# Altium integrated library Linear Technology Power Management Battery Management.IntLib: 626 symbols (part 38 of 56)
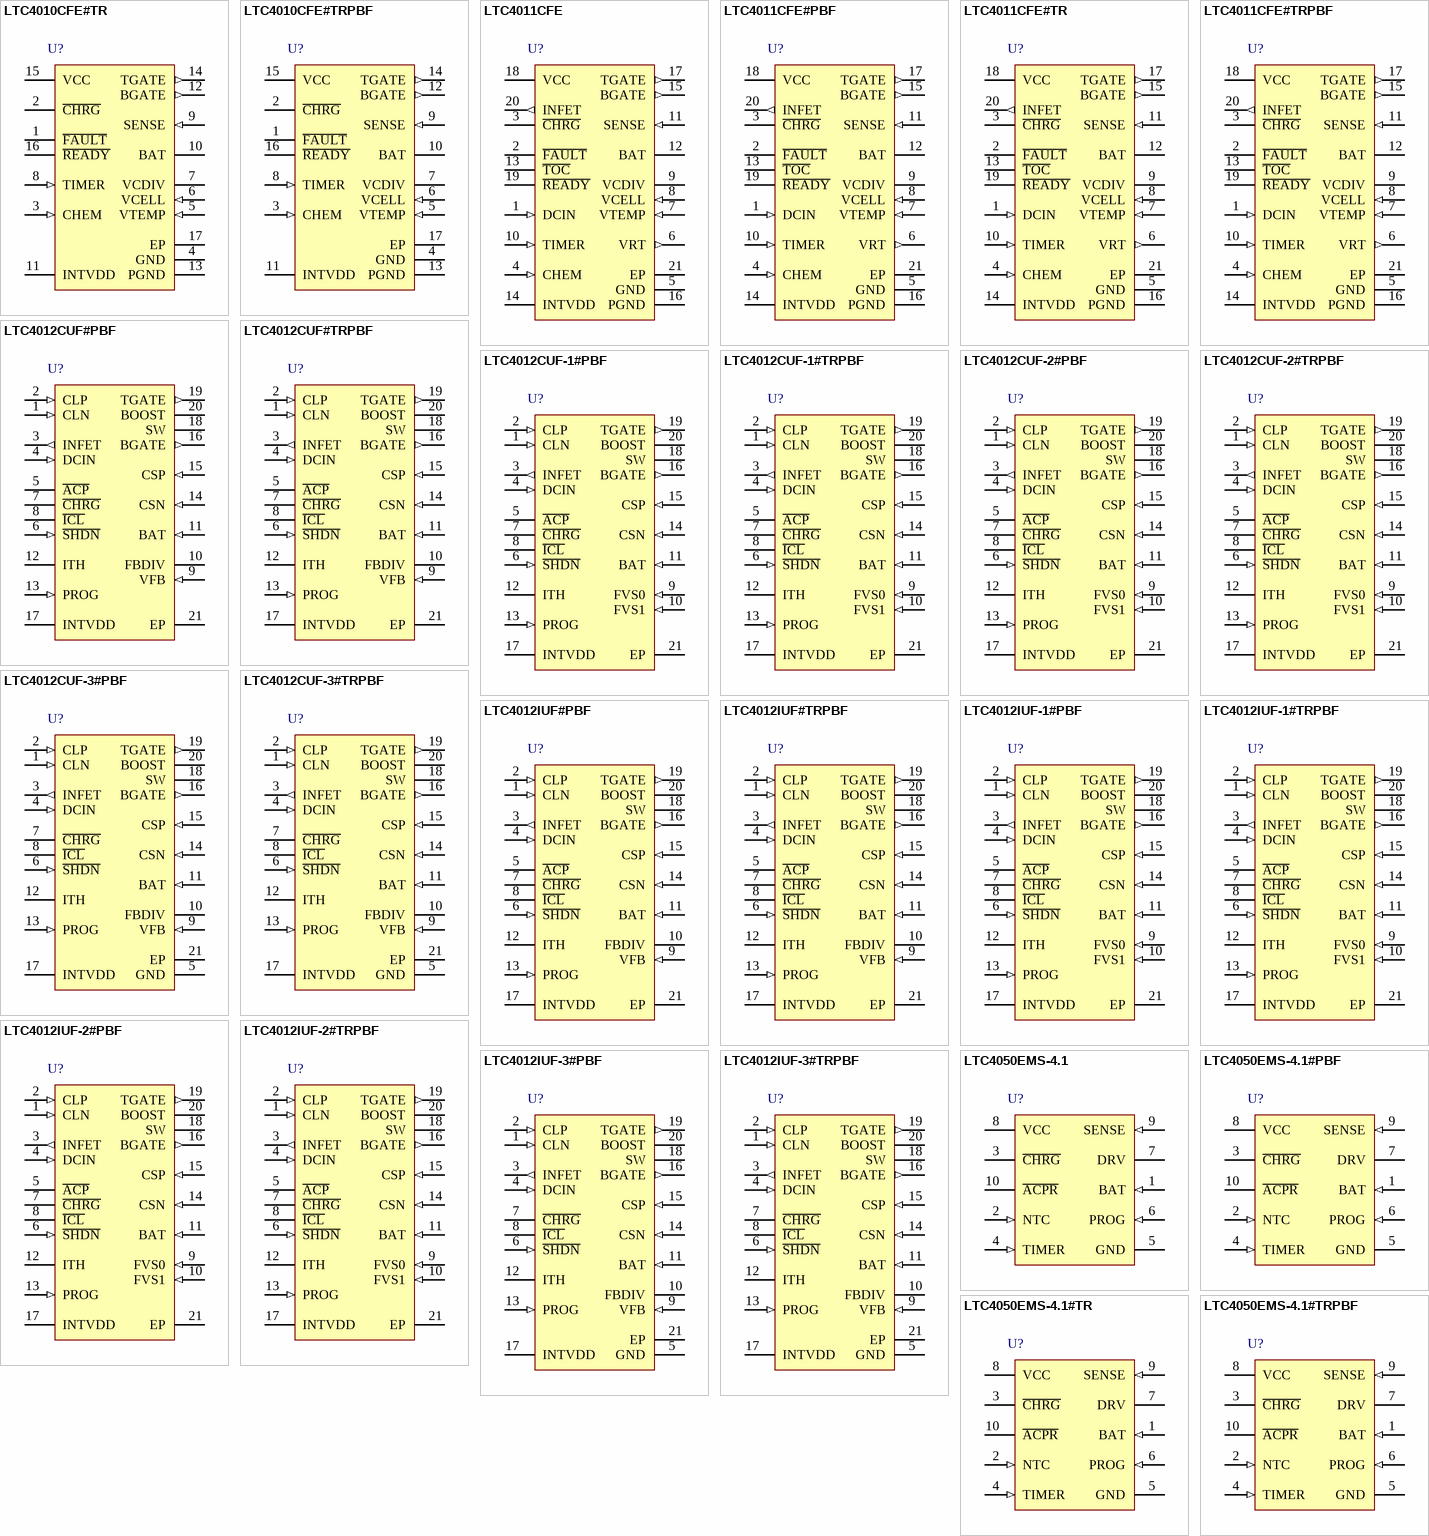
[diagram p59: symbols LTC4010CFE#TR to LTC4050EMS-4.1#TRPBF]

## LTC4050EMS-4.1#PBF
designator U?
Lithium-Ion Linear Battery Charger with Thermistor Interface, 4.5 to 10 V Vin, 10-pin SOP (MS-10), -40 to 85 degC, Pb-Free; Manufacturer: Linear Technology; PartNumber: LTC4050EMS-4.1#PBF; Battery Chemistry: Li-Ion, Li-Polymer; Charge Termination: On-board timer; Float Voltage: 4.1 V; Number of Cells: 1; Vin Max(V): 10; Vin Min(V): 4.5; PackageVersion: Rev. E, 06/2010; PackageReference: MS-10; PackageDescription: 10-Pin Plastic MSOP, Body 3 x 3 mm, Pitch 0.5 mm; Supplier 1: Digi-Key; Supplier Part Number 1: LTC4050EMS-4.1#PBF-ND; Supplier 2: Farnell; Supplier Part Number 2: 1648030; Supplier 3: Newark; Supplier Part Number 3: 58M0834; RoHS: TRUE; Type of Charger: Linear; Mounting Technology: Surface Mount; ComponentLink1Description: Manufacturer URL; ComponentLink1URL: http://www.linear.com/; ComponentLink2Description: Datasheet; ComponentLink2URL: http://cds.linear.com/docs/en/datasheet/4050f.pdf; ComponentLink3Description: Package Specification; ComponentLink3URL: http://cds.linear.com/docs/en/packaging/05081661_F_MS.pdf
footprint LT-MS-10_N (SOP, 10-Leads, Body 3.1x3.1mm, Pitch 0.5mm, IPC Medium Density)
footprint LT-MS-10_L (SOP, 10-Leads, Body 3.1x3.1mm, Pitch 0.5mm, IPC High Density)
footprint LT-MS-10_M (SOP, 10-Leads, Body 3.1x3.1mm, Pitch 0.5mm, IPC Low Density)
pins: 1 BAT (in) "Battery Sense Input. A precision internal resistor divider on this pin sets the final float voltage. The resistor divider is disconnected in sleep mode to reduce the current drain on the battery. A bypass capacitor of 10uF (See Datasheet)", 2 NTC (in) "Thermistor Interface Input. A 10kohm Dale Curve 2 NTC thermistor (or other 10kohm NTC thermistor with a room temperature beta of around 3400) is connected from this pin to ground. The charge cycle will be disabled and the (See Datasheet)", 3 ~{CHRG} (hiz) "Charge Status Open-Drain Output. When the battery is charging, the C\H\R\G\ pin is pulled low by an internal N-channel MOSFET. When the charge current drops to 10% of the full-scale current for more than 15ms, the N-channel (See Datasheet)", 4 TIMER (in) "Timer Capacitor and Constant-Voltage Mode Disable Input Pin. The timer period is set by placing a capacitor, CTIMER, to GND. The timer period is tTIMER = (CTIMER x 3 hours)/(0.1uF). Shorting the TIMER pin to GND will disable (See Datasheet)", 5 GND (power) "Ground.", 6 PROG (in) "Charge Current Program and Shutdown Input Pin. The charge current is programmed by connecting a resistor, RPROG to ground. The charge current is IBAT = (VPROG • 800ohm)/(RPROG • RSENSE). The IC can be forced i(See Datasheet)", 7 DRV (hiz) "Drive Output Pin for the P-Channel MOSFET or PNP Transistor. The impedance is high at this pin, therefore, if a PNP pass transistor is used, it must have high gain.", 8 VCC (power) "Positive Input Supply Voltage. VCC can range from 4.5V to 10V. Bypass this pin with a 1uF capacitor. When VBAT is within 54mV of VCC, the LTC4050 is forced into sleep mode, dropping ICC to 5uA.", 9 SENSE (in) "Current Sense Input. A sense resistor, RSENSE, must be connected from VCC to the SENSE pin. Select a resistor value that will develop approximately 100mV at the programmed full-scale charge current.", 10 ~{ACPR} (hiz) "Wall Adapter Present Output. When the input voltage (wall adaptor) is applied to the LTC4050, this pin is pulled to ground by an internal N-channel MOSFET that is capable of sinking 5mA suitable for driving an external LED."

## LTC4050EMS-4.1#TR
designator U?
Lithium-Ion Linear Battery Charger with Thermistor Interface, 4.5 to 10 V Vin, 10-pin SOP (MS-10), -40 to 85 degC, Tape and Reel; Manufacturer: Linear Technology; PartNumber: LTC4050EMS-4.1#TR; Battery Chemistry: Li-Ion, Li-Polymer; Charge Termination: On-board timer; Float Voltage: 4.1 V; Number of Cells: 1; Vin Max(V): 10; Vin Min(V): 4.5; PackageVersion: Rev. E, 06/2010; PackageReference: MS-10; PackageDescription: 10-Pin Plastic MSOP, Body 3 x 3 mm, Pitch 0.5 mm; Supplier 1: Digi-Key; Supplier Part Number 1: LTC4050EMS-4.1TR-ND; Packing: Tape and Reel; RoHS: FALSE; Type of Charger: Linear; Mounting Technology: Surface Mount; ComponentLink1Description: Manufacturer URL; ComponentLink1URL: http://www.linear.com/; ComponentLink2Description: Datasheet; ComponentLink2URL: http://cds.linear.com/docs/en/datasheet/4050f.pdf; ComponentLink3Description: Package Specification; ComponentLink3URL: http://cds.linear.com/docs/en/packaging/05081661_F_MS.pdf
footprint LT-MS-10_N (SOP, 10-Leads, Body 3.1x3.1mm, Pitch 0.5mm, IPC Medium Density)
footprint LT-MS-10_L (SOP, 10-Leads, Body 3.1x3.1mm, Pitch 0.5mm, IPC High Density)
footprint LT-MS-10_M (SOP, 10-Leads, Body 3.1x3.1mm, Pitch 0.5mm, IPC Low Density)
pins: 1 BAT (in) "Battery Sense Input. A precision internal resistor divider on this pin sets the final float voltage. The resistor divider is disconnected in sleep mode to reduce the current drain on the battery. A bypass capacitor of 10uF (See Datasheet)", 2 NTC (in) "Thermistor Interface Input. A 10kohm Dale Curve 2 NTC thermistor (or other 10kohm NTC thermistor with a room temperature beta of around 3400) is connected from this pin to ground. The charge cycle will be disabled and the (See Datasheet)", 3 ~{CHRG} (hiz) "Charge Status Open-Drain Output. When the battery is charging, the C\H\R\G\ pin is pulled low by an internal N-channel MOSFET. When the charge current drops to 10% of the full-scale current for more than 15ms, the N-channel (See Datasheet)", 4 TIMER (in) "Timer Capacitor and Constant-Voltage Mode Disable Input Pin. The timer period is set by placing a capacitor, CTIMER, to GND. The timer period is tTIMER = (CTIMER x 3 hours)/(0.1uF). Shorting the TIMER pin to GND will disable (See Datasheet)", 5 GND (power) "Ground.", 6 PROG (in) "Charge Current Program and Shutdown Input Pin. The charge current is programmed by connecting a resistor, RPROG to ground. The charge current is IBAT = (VPROG • 800ohm)/(RPROG • RSENSE). The IC can be forced i(See Datasheet)", 7 DRV (hiz) "Drive Output Pin for the P-Channel MOSFET or PNP Transistor. The impedance is high at this pin, therefore, if a PNP pass transistor is used, it must have high gain.", 8 VCC (power) "Positive Input Supply Voltage. VCC can range from 4.5V to 10V. Bypass this pin with a 1uF capacitor. When VBAT is within 54mV of VCC, the LTC4050 is forced into sleep mode, dropping ICC to 5uA.", 9 SENSE (in) "Current Sense Input. A sense resistor, RSENSE, must be connected from VCC to the SENSE pin. Select a resistor value that will develop approximately 100mV at the programmed full-scale charge current.", 10 ~{ACPR} (hiz) "Wall Adapter Present Output. When the input voltage (wall adaptor) is applied to the LTC4050, this pin is pulled to ground by an internal N-channel MOSFET that is capable of sinking 5mA suitable for driving an external LED."

## LTC4050EMS-4.1#TRPBF
designator U?
Lithium-Ion Linear Battery Charger with Thermistor Interface, 4.5 to 10 V Vin, 10-pin SOP (MS-10), -40 to 85 degC, Pb-Free, Tape and Reel; Manufacturer: Linear Technology; PartNumber: LTC4050EMS-4.1#TRPBF; Battery Chemistry: Li-Ion, Li-Polymer; Charge Termination: On-board timer; Float Voltage: 4.1 V; Number of Cells: 1; Vin Max(V): 10; Vin Min(V): 4.5; PackageVersion: Rev. E, 06/2010; PackageReference: MS-10; PackageDescription: 10-Pin Plastic MSOP, Body 3 x 3 mm, Pitch 0.5 mm; Supplier 1: Digi-Key; Supplier Part Number 1: LTC4050EMS-4.1#TRPBF-ND; Packing: Tape and Reel; RoHS: TRUE; Type of Charger: Linear; Mounting Technology: Surface Mount; ComponentLink1Description: Manufacturer URL; ComponentLink1URL: http://www.linear.com/; ComponentLink2Description: Datasheet; ComponentLink2URL: http://cds.linear.com/docs/en/datasheet/4050f.pdf; ComponentLink3Description: Package Specification; ComponentLink3URL: http://cds.linear.com/docs/en/packaging/05081661_F_MS.pdf
footprint LT-MS-10_N (SOP, 10-Leads, Body 3.1x3.1mm, Pitch 0.5mm, IPC Medium Density)
footprint LT-MS-10_L (SOP, 10-Leads, Body 3.1x3.1mm, Pitch 0.5mm, IPC High Density)
footprint LT-MS-10_M (SOP, 10-Leads, Body 3.1x3.1mm, Pitch 0.5mm, IPC Low Density)
pins: 1 BAT (in) "Battery Sense Input. A precision internal resistor divider on this pin sets the final float voltage. The resistor divider is disconnected in sleep mode to reduce the current drain on the battery. A bypass capacitor of 10uF (See Datasheet)", 2 NTC (in) "Thermistor Interface Input. A 10kohm Dale Curve 2 NTC thermistor (or other 10kohm NTC thermistor with a room temperature beta of around 3400) is connected from this pin to ground. The charge cycle will be disabled and the (See Datasheet)", 3 ~{CHRG} (hiz) "Charge Status Open-Drain Output. When the battery is charging, the C\H\R\G\ pin is pulled low by an internal N-channel MOSFET. When the charge current drops to 10% of the full-scale current for more than 15ms, the N-channel (See Datasheet)", 4 TIMER (in) "Timer Capacitor and Constant-Voltage Mode Disable Input Pin. The timer period is set by placing a capacitor, CTIMER, to GND. The timer period is tTIMER = (CTIMER x 3 hours)/(0.1uF). Shorting the TIMER pin to GND will disable (See Datasheet)", 5 GND (power) "Ground.", 6 PROG (in) "Charge Current Program and Shutdown Input Pin. The charge current is programmed by connecting a resistor, RPROG to ground. The charge current is IBAT = (VPROG • 800ohm)/(RPROG • RSENSE). The IC can be forced i(See Datasheet)", 7 DRV (hiz) "Drive Output Pin for the P-Channel MOSFET or PNP Transistor. The impedance is high at this pin, therefore, if a PNP pass transistor is used, it must have high gain.", 8 VCC (power) "Positive Input Supply Voltage. VCC can range from 4.5V to 10V. Bypass this pin with a 1uF capacitor. When VBAT is within 54mV of VCC, the LTC4050 is forced into sleep mode, dropping ICC to 5uA.", 9 SENSE (in) "Current Sense Input. A sense resistor, RSENSE, must be connected from VCC to the SENSE pin. Select a resistor value that will develop approximately 100mV at the programmed full-scale charge current.", 10 ~{ACPR} (hiz) "Wall Adapter Present Output. When the input voltage (wall adaptor) is applied to the LTC4050, this pin is pulled to ground by an internal N-channel MOSFET that is capable of sinking 5mA suitable for driving an external LED."

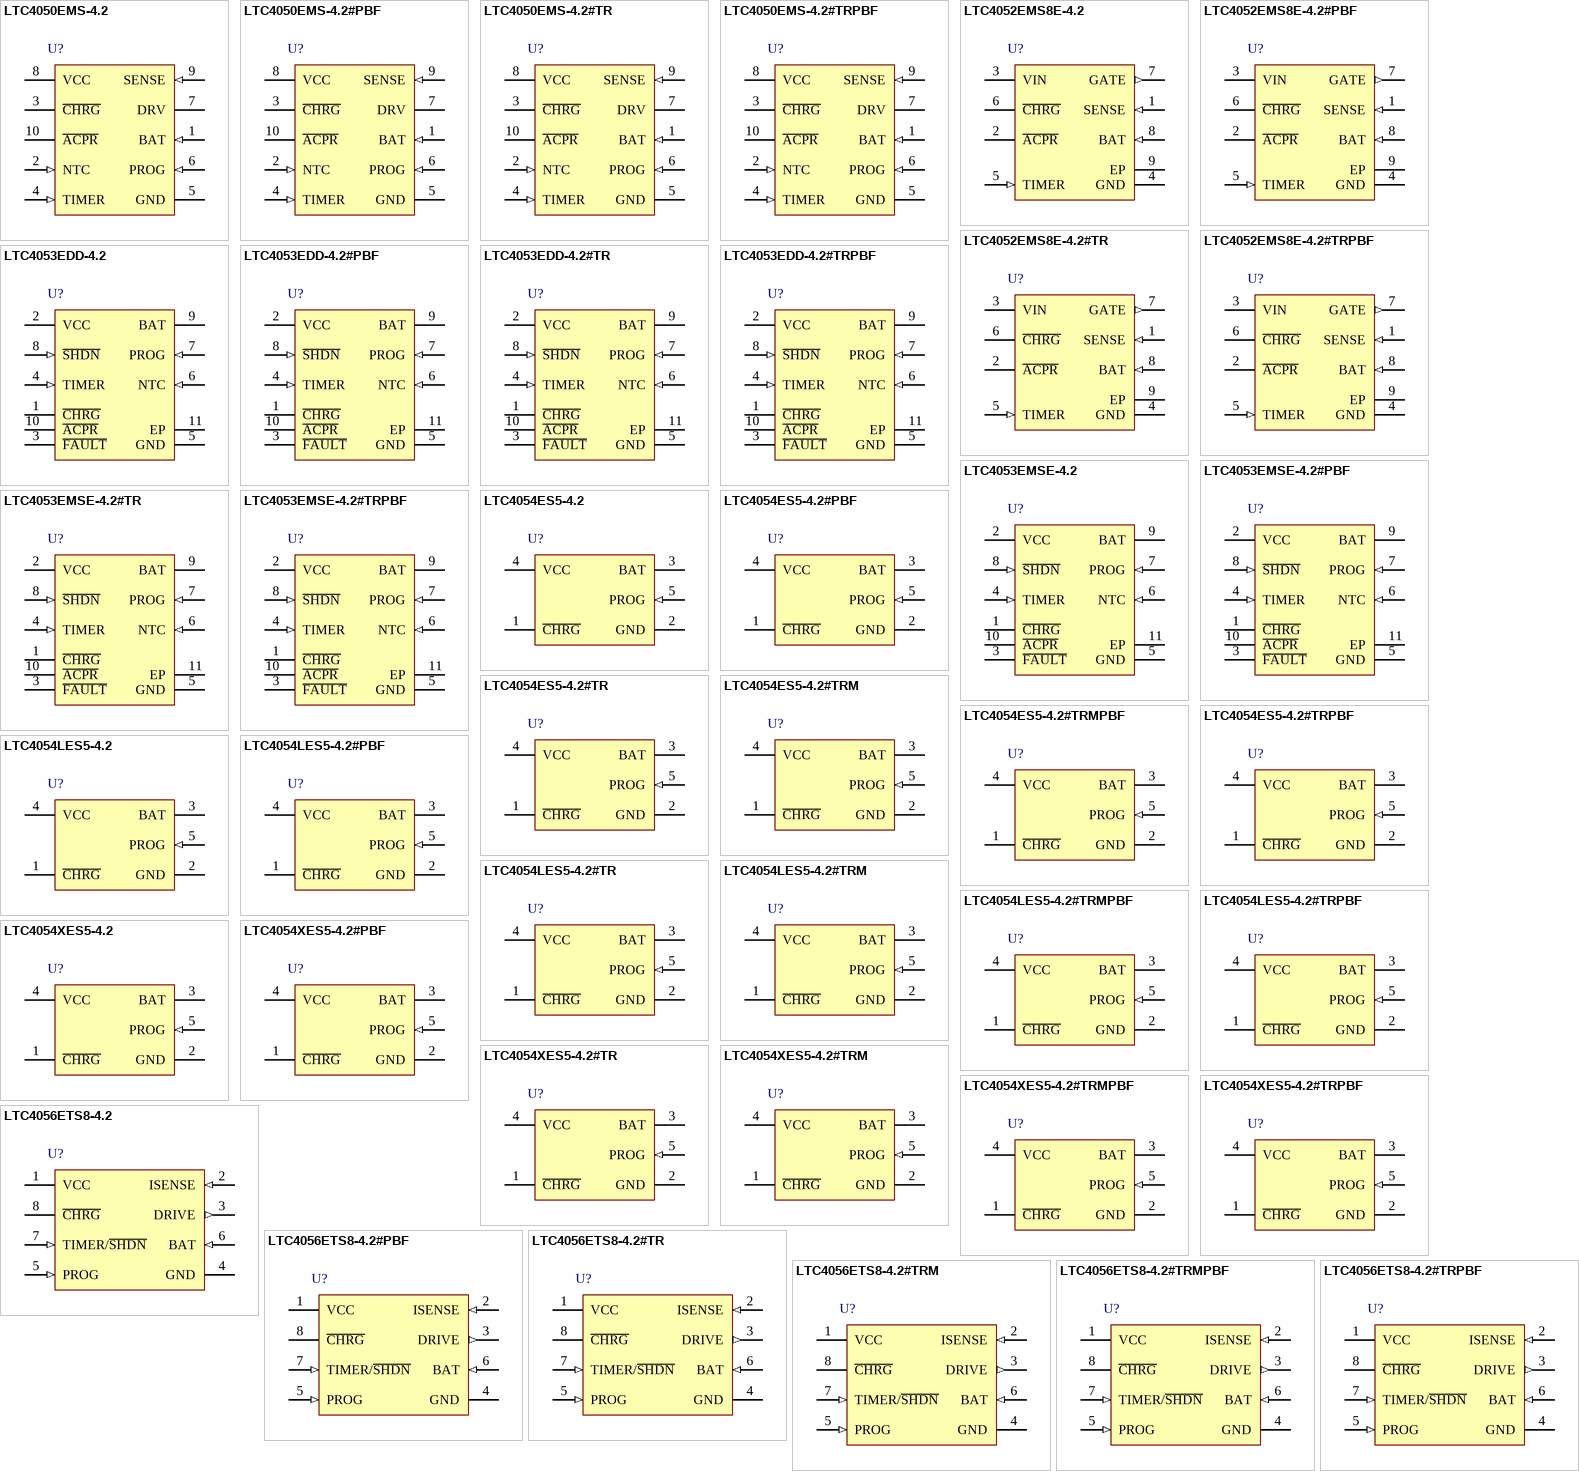
[diagram p15: symbols LTC4050EMS-4.2 to LTC4056ETS8-4.2#TRPBF]

## LTC4050EMS-4.2
designator U?
Lithium-Ion Linear Battery Charger with Thermistor Interface, 4.5 to 10 V Vin, 10-pin SOP (MS-10), -40 to 85 degC; Manufacturer: Linear Technology; PartNumber: LTC4050EMS-4.2; Battery Chemistry: Li-Ion, Li-Polymer; Charge Termination: On-board timer; Float Voltage: 4.2 V; Number of Cells: 1; Vin Max(V): 10; Vin Min(V): 4.5; PackageVersion: Rev. E, 06/2010; PackageReference: MS-10; PackageDescription: 10-Pin Plastic MSOP, Body 3 x 3 mm, Pitch 0.5 mm; Supplier 1: Digi-Key; Supplier Part Number 1: LTC4050EMS-4.2-ND; RoHS: FALSE; Type of Charger: Linear; Mounting Technology: Surface Mount; ComponentLink1Description: Manufacturer URL; ComponentLink1URL: http://www.linear.com/; ComponentLink2Description: Datasheet; ComponentLink2URL: http://cds.linear.com/docs/en/datasheet/4050f.pdf; ComponentLink3Description: Package Specification; ComponentLink3URL: http://cds.linear.com/docs/en/packaging/05081661_F_MS.pdf
footprint LT-MS-10_N (SOP, 10-Leads, Body 3.1x3.1mm, Pitch 0.5mm, IPC Medium Density)
footprint LT-MS-10_L (SOP, 10-Leads, Body 3.1x3.1mm, Pitch 0.5mm, IPC High Density)
footprint LT-MS-10_M (SOP, 10-Leads, Body 3.1x3.1mm, Pitch 0.5mm, IPC Low Density)
pins: 1 BAT (in) "Battery Sense Input. A precision internal resistor divider on this pin sets the final float voltage. The resistor divider is disconnected in sleep mode to reduce the current drain on the battery. A bypass capacitor of 10uF (See Datasheet)", 2 NTC (in) "Thermistor Interface Input. A 10kohm Dale Curve 2 NTC thermistor (or other 10kohm NTC thermistor with a room temperature beta of around 3400) is connected from this pin to ground. The charge cycle will be disabled and the (See Datasheet)", 3 ~{CHRG} (hiz) "Charge Status Open-Drain Output. When the battery is charging, the C\H\R\G\ pin is pulled low by an internal N-channel MOSFET. When the charge current drops to 10% of the full-scale current for more than 15ms, the N-channel (See Datasheet)", 4 TIMER (in) "Timer Capacitor and Constant-Voltage Mode Disable Input Pin. The timer period is set by placing a capacitor, CTIMER, to GND. The timer period is tTIMER = (CTIMER x 3 hours)/(0.1uF). Shorting the TIMER pin to GND will disable (See Datasheet)", 5 GND (power) "Ground.", 6 PROG (in) "Charge Current Program and Shutdown Input Pin. The charge current is programmed by connecting a resistor, RPROG to ground. The charge current is IBAT = (VPROG • 800ohm)/(RPROG • RSENSE). The IC can be forced i(See Datasheet)", 7 DRV (hiz) "Drive Output Pin for the P-Channel MOSFET or PNP Transistor. The impedance is high at this pin, therefore, if a PNP pass transistor is used, it must have high gain.", 8 VCC (power) "Positive Input Supply Voltage. VCC can range from 4.5V to 10V. Bypass this pin with a 1uF capacitor. When VBAT is within 54mV of VCC, the LTC4050 is forced into sleep mode, dropping ICC to 5uA.", 9 SENSE (in) "Current Sense Input. A sense resistor, RSENSE, must be connected from VCC to the SENSE pin. Select a resistor value that will develop approximately 100mV at the programmed full-scale charge current.", 10 ~{ACPR} (hiz) "Wall Adapter Present Output. When the input voltage (wall adaptor) is applied to the LTC4050, this pin is pulled to ground by an internal N-channel MOSFET that is capable of sinking 5mA suitable for driving an external LED."

## LTC4050EMS-4.2#PBF
designator U?
Lithium-Ion Linear Battery Charger with Thermistor Interface, 4.5 to 10 V Vin, 10-pin SOP (MS-10), -40 to 85 degC, Pb-Free; Manufacturer: Linear Technology; PartNumber: LTC4050EMS-4.2#PBF; Battery Chemistry: Li-Ion, Li-Polymer; Charge Termination: On-board timer; Float Voltage: 4.2 V; Number of Cells: 1; Vin Max(V): 10; Vin Min(V): 4.5; PackageVersion: Rev. E, 06/2010; PackageReference: MS-10; PackageDescription: 10-Pin Plastic MSOP, Body 3 x 3 mm, Pitch 0.5 mm; Supplier 1: Digi-Key; Supplier Part Number 1: LTC4050EMS-4.2#PBF-ND; Supplier 2: Newark; Supplier Part Number 2: 58M0838; RoHS: TRUE; Type of Charger: Linear; Mounting Technology: Surface Mount; ComponentLink1Description: Manufacturer URL; ComponentLink1URL: http://www.linear.com/; ComponentLink2Description: Datasheet; ComponentLink2URL: http://cds.linear.com/docs/en/datasheet/4050f.pdf; ComponentLink3Description: Package Specification; ComponentLink3URL: http://cds.linear.com/docs/en/packaging/05081661_F_MS.pdf
footprint LT-MS-10_N (SOP, 10-Leads, Body 3.1x3.1mm, Pitch 0.5mm, IPC Medium Density)
footprint LT-MS-10_L (SOP, 10-Leads, Body 3.1x3.1mm, Pitch 0.5mm, IPC High Density)
footprint LT-MS-10_M (SOP, 10-Leads, Body 3.1x3.1mm, Pitch 0.5mm, IPC Low Density)
pins: 1 BAT (in) "Battery Sense Input. A precision internal resistor divider on this pin sets the final float voltage. The resistor divider is disconnected in sleep mode to reduce the current drain on the battery. A bypass capacitor of 10uF (See Datasheet)", 2 NTC (in) "Thermistor Interface Input. A 10kohm Dale Curve 2 NTC thermistor (or other 10kohm NTC thermistor with a room temperature beta of around 3400) is connected from this pin to ground. The charge cycle will be disabled and the (See Datasheet)", 3 ~{CHRG} (hiz) "Charge Status Open-Drain Output. When the battery is charging, the C\H\R\G\ pin is pulled low by an internal N-channel MOSFET. When the charge current drops to 10% of the full-scale current for more than 15ms, the N-channel (See Datasheet)", 4 TIMER (in) "Timer Capacitor and Constant-Voltage Mode Disable Input Pin. The timer period is set by placing a capacitor, CTIMER, to GND. The timer period is tTIMER = (CTIMER x 3 hours)/(0.1uF). Shorting the TIMER pin to GND will disable (See Datasheet)", 5 GND (power) "Ground.", 6 PROG (in) "Charge Current Program and Shutdown Input Pin. The charge current is programmed by connecting a resistor, RPROG to ground. The charge current is IBAT = (VPROG • 800ohm)/(RPROG • RSENSE). The IC can be forced i(See Datasheet)", 7 DRV (hiz) "Drive Output Pin for the P-Channel MOSFET or PNP Transistor. The impedance is high at this pin, therefore, if a PNP pass transistor is used, it must have high gain.", 8 VCC (power) "Positive Input Supply Voltage. VCC can range from 4.5V to 10V. Bypass this pin with a 1uF capacitor. When VBAT is within 54mV of VCC, the LTC4050 is forced into sleep mode, dropping ICC to 5uA.", 9 SENSE (in) "Current Sense Input. A sense resistor, RSENSE, must be connected from VCC to the SENSE pin. Select a resistor value that will develop approximately 100mV at the programmed full-scale charge current.", 10 ~{ACPR} (hiz) "Wall Adapter Present Output. When the input voltage (wall adaptor) is applied to the LTC4050, this pin is pulled to ground by an internal N-channel MOSFET that is capable of sinking 5mA suitable for driving an external LED."

## LTC4050EMS-4.2#TR
designator U?
Lithium-Ion Linear Battery Charger with Thermistor Interface, 4.5 to 10 V Vin, 10-pin SOP (MS-10), -40 to 85 degC, Tape and Reel; Manufacturer: Linear Technology; PartNumber: LTC4050EMS-4.2#TR; Battery Chemistry: Li-Ion, Li-Polymer; Charge Termination: On-board timer; Float Voltage: 4.2 V; Number of Cells: 1; Vin Max(V): 10; Vin Min(V): 4.5; PackageVersion: Rev. E, 06/2010; PackageReference: MS-10; PackageDescription: 10-Pin Plastic MSOP, Body 3 x 3 mm, Pitch 0.5 mm; Supplier 1: Digi-Key; Supplier Part Number 1: LTC4050EMS-4.2TR-ND; Packing: Tape and Reel; RoHS: FALSE; Type of Charger: Linear; Mounting Technology: Surface Mount; ComponentLink1Description: Manufacturer URL; ComponentLink1URL: http://www.linear.com/; ComponentLink2Description: Datasheet; ComponentLink2URL: http://cds.linear.com/docs/en/datasheet/4050f.pdf; ComponentLink3Description: Package Specification; ComponentLink3URL: http://cds.linear.com/docs/en/packaging/05081661_F_MS.pdf
footprint LT-MS-10_N (SOP, 10-Leads, Body 3.1x3.1mm, Pitch 0.5mm, IPC Medium Density)
footprint LT-MS-10_L (SOP, 10-Leads, Body 3.1x3.1mm, Pitch 0.5mm, IPC High Density)
footprint LT-MS-10_M (SOP, 10-Leads, Body 3.1x3.1mm, Pitch 0.5mm, IPC Low Density)
pins: 1 BAT (in) "Battery Sense Input. A precision internal resistor divider on this pin sets the final float voltage. The resistor divider is disconnected in sleep mode to reduce the current drain on the battery. A bypass capacitor of 10uF (See Datasheet)", 2 NTC (in) "Thermistor Interface Input. A 10kohm Dale Curve 2 NTC thermistor (or other 10kohm NTC thermistor with a room temperature beta of around 3400) is connected from this pin to ground. The charge cycle will be disabled and the (See Datasheet)", 3 ~{CHRG} (hiz) "Charge Status Open-Drain Output. When the battery is charging, the C\H\R\G\ pin is pulled low by an internal N-channel MOSFET. When the charge current drops to 10% of the full-scale current for more than 15ms, the N-channel (See Datasheet)", 4 TIMER (in) "Timer Capacitor and Constant-Voltage Mode Disable Input Pin. The timer period is set by placing a capacitor, CTIMER, to GND. The timer period is tTIMER = (CTIMER x 3 hours)/(0.1uF). Shorting the TIMER pin to GND will disable (See Datasheet)", 5 GND (power) "Ground.", 6 PROG (in) "Charge Current Program and Shutdown Input Pin. The charge current is programmed by connecting a resistor, RPROG to ground. The charge current is IBAT = (VPROG • 800ohm)/(RPROG • RSENSE). The IC can be forced i(See Datasheet)", 7 DRV (hiz) "Drive Output Pin for the P-Channel MOSFET or PNP Transistor. The impedance is high at this pin, therefore, if a PNP pass transistor is used, it must have high gain.", 8 VCC (power) "Positive Input Supply Voltage. VCC can range from 4.5V to 10V. Bypass this pin with a 1uF capacitor. When VBAT is within 54mV of VCC, the LTC4050 is forced into sleep mode, dropping ICC to 5uA.", 9 SENSE (in) "Current Sense Input. A sense resistor, RSENSE, must be connected from VCC to the SENSE pin. Select a resistor value that will develop approximately 100mV at the programmed full-scale charge current.", 10 ~{ACPR} (hiz) "Wall Adapter Present Output. When the input voltage (wall adaptor) is applied to the LTC4050, this pin is pulled to ground by an internal N-channel MOSFET that is capable of sinking 5mA suitable for driving an external LED."

## LTC4050EMS-4.2#TRPBF
designator U?
Lithium-Ion Linear Battery Charger with Thermistor Interface, 4.5 to 10 V Vin, 10-pin SOP (MS-10), -40 to 85 degC, Pb-Free, Tape and Reel; Manufacturer: Linear Technology; PartNumber: LTC4050EMS-4.2#TRPBF; Battery Chemistry: Li-Ion, Li-Polymer; Charge Termination: On-board timer; Float Voltage: 4.2 V; Number of Cells: 1; Vin Max(V): 10; Vin Min(V): 4.5; PackageVersion: Rev. E, 06/2010; PackageReference: MS-10; PackageDescription: 10-Pin Plastic MSOP, Body 3 x 3 mm, Pitch 0.5 mm; Supplier 1: Digi-Key; Supplier Part Number 1: LTC4050EMS-4.2#TRPBF-ND; Packing: Tape and Reel; RoHS: TRUE; Type of Charger: Linear; Mounting Technology: Surface Mount; ComponentLink1Description: Manufacturer URL; ComponentLink1URL: http://www.linear.com/; ComponentLink2Description: Datasheet; ComponentLink2URL: http://cds.linear.com/docs/en/datasheet/4050f.pdf; ComponentLink3Description: Package Specification; ComponentLink3URL: http://cds.linear.com/docs/en/packaging/05081661_F_MS.pdf
footprint LT-MS-10_N (SOP, 10-Leads, Body 3.1x3.1mm, Pitch 0.5mm, IPC Medium Density)
footprint LT-MS-10_L (SOP, 10-Leads, Body 3.1x3.1mm, Pitch 0.5mm, IPC High Density)
footprint LT-MS-10_M (SOP, 10-Leads, Body 3.1x3.1mm, Pitch 0.5mm, IPC Low Density)
pins: 1 BAT (in) "Battery Sense Input. A precision internal resistor divider on this pin sets the final float voltage. The resistor divider is disconnected in sleep mode to reduce the current drain on the battery. A bypass capacitor of 10uF (See Datasheet)", 2 NTC (in) "Thermistor Interface Input. A 10kohm Dale Curve 2 NTC thermistor (or other 10kohm NTC thermistor with a room temperature beta of around 3400) is connected from this pin to ground. The charge cycle will be disabled and the (See Datasheet)", 3 ~{CHRG} (hiz) "Charge Status Open-Drain Output. When the battery is charging, the C\H\R\G\ pin is pulled low by an internal N-channel MOSFET. When the charge current drops to 10% of the full-scale current for more than 15ms, the N-channel (See Datasheet)", 4 TIMER (in) "Timer Capacitor and Constant-Voltage Mode Disable Input Pin. The timer period is set by placing a capacitor, CTIMER, to GND. The timer period is tTIMER = (CTIMER x 3 hours)/(0.1uF). Shorting the TIMER pin to GND will disable (See Datasheet)", 5 GND (power) "Ground.", 6 PROG (in) "Charge Current Program and Shutdown Input Pin. The charge current is programmed by connecting a resistor, RPROG to ground. The charge current is IBAT = (VPROG • 800ohm)/(RPROG • RSENSE). The IC can be forced i(See Datasheet)", 7 DRV (hiz) "Drive Output Pin for the P-Channel MOSFET or PNP Transistor. The impedance is high at this pin, therefore, if a PNP pass transistor is used, it must have high gain.", 8 VCC (power) "Positive Input Supply Voltage. VCC can range from 4.5V to 10V. Bypass this pin with a 1uF capacitor. When VBAT is within 54mV of VCC, the LTC4050 is forced into sleep mode, dropping ICC to 5uA.", 9 SENSE (in) "Current Sense Input. A sense resistor, RSENSE, must be connected from VCC to the SENSE pin. Select a resistor value that will develop approximately 100mV at the programmed full-scale charge current.", 10 ~{ACPR} (hiz) "Wall Adapter Present Output. When the input voltage (wall adaptor) is applied to the LTC4050, this pin is pulled to ground by an internal N-channel MOSFET that is capable of sinking 5mA suitable for driving an external LED."

## LTC4052EMS8E-4.2
designator U?
Lithium-Ion Battery Pulse Charger with Overcurrent Protection, 4.5 to 10 V Vin, 8-pin SOP (MS8E-8), -40 to 85 degC; Manufacturer: Linear Technology; PartNumber: LTC4052EMS8E-4.2; Battery Chemistry: Li-Ion, Li-Polymer; Charge Termination: On-board timer; Float Voltage: 4.2 V; Number of Cells: 1; Vin Max(V): 10; Vin Min(V): 4.5; PackageVersion: Rev. E; PackageReference: MS8E-8; PackageDescription: 8-Pin Plastic MSOP, Exposed Die Pad, Body 3 x 3 mm, Pitch 0.65 mm; Supplier 1: Digi-Key; Supplier Part Number 1: LTC4052EMS8E-4.2-ND; RoHS: FALSE; Type of Charger: Pulse; Mounting Technology: Surface Mount; ComponentLink1Description: Manufacturer URL; ComponentLink1URL: http://www.linear.com/; ComponentLink2Description: Datasheet; ComponentLink2URL: http://cds.linear.com/docs/en/datasheet/405242f.pdf; ComponentLink3Description: Package Specification; ComponentLink3URL: http://cds.linear.com/docs/en/datasheet/4070fc.pdf
footprint LT-MS8E-8-2060X1830TP_N (SOP, 8-Leads, Body 3.1x3.1mm, Pitch 0.65mm, Thermal Pad 2.162x1.932mm, IPC Medium Density)
footprint LT-MS8E-8-2060X1830TP_L (SOP, 8-Leads, Body 3.1x3.1mm, Pitch 0.65mm, Thermal Pad 2.162x1.932mm, IPC High Density)
footprint LT-MS8E-8-2060X1830TP_M (SOP, 8-Leads, Body 3.1x3.1mm, Pitch 0.65mm, Thermal Pad 2.162x1.932mm, IPC Low Density)
pins: 1 SENSE (in) "Overcurrent Sense Input. A sense resistor (RSENSE) should be connected from VIN to the SENSE pin to program the current limit level. When overcurrent limit is tripped, the pass transistor immediately turns off and turns back (See Datasheet)", 2 ~{ACPR} (hiz) "AC Wall Adapter Present Open-Drain Output. When the input voltage (wall adapter) is applied to the LTC4052, this pin is pulled to ground by an internal N-channel MOSFET capable of driving an LED.", 3 VIN (power) "Positive Input Supply Voltage (4.5V <= VIN <= 10V). Bypass this pin with a 1uF capacitor in series with a 4.7ohm resistor.", 4 GND (power) "Electrical Ground Connection and provides a thermal path from the IC to the PC board copper. The exposed backside of the package is also ground and must be soldered to the PC board for maximum power dissipation.", 5 TIMER (in) "Timer Set Pin. The timer period is programmed by a capacitor (CTIMER) to ground. The timer period is: tTIMER = (CTIMER x 3Hr)/(0.1uF). The minimum ON time, minimum OFF time and the overcurrent time-out period all scale with (See Datasheet)", 6 ~{CHRG} (hiz) "Charge Status Open-Drain Output. When a depleted battery is being charged, the C\H\R\G\ pin is pulled to ground by an internal N-channel MOSFET capable of driving an LED. Once the duty cycle at the GATE pin drops below 10%, (See Datasheet)", 7 GATE (out) "Gate Drive Output Pin for Internal and External Pass Transistors. An external N-MOSFET transistor can be connected in parallel with the internal transistor to reduce the on-resistance for higher charge current. In this case, (See Datasheet)", 8 BAT (in) "Battery Sense Input Pin. An internal resistor divider presets the final float voltage to 4.2V. If the BAT pin drops below 4.05V after the charge cycle has ended, the timer resets and a new charge cycle begins. This pin is (See Datasheet)", 9 EP (power) "EXPOSED PAD IS GROUND. (MUST BE SOLDERED TO PCB)."

## LTC4052EMS8E-4.2#PBF
designator U?
Lithium-Ion Battery Pulse Charger with Overcurrent Protection, 4.5 to 10 V Vin, 8-pin SOP (MS8E-8), -40 to 85 degC, Pb-Free; Manufacturer: Linear Technology; PartNumber: LTC4052EMS8E-4.2#PBF; Battery Chemistry: Li-Ion, Li-Polymer; Charge Termination: On-board timer; Float Voltage: 4.2 V; Number of Cells: 1; Vin Max(V): 10; Vin Min(V): 4.5; PackageVersion: Rev. E; PackageReference: MS8E-8; PackageDescription: 8-Pin Plastic MSOP, Exposed Die Pad, Body 3 x 3 mm, Pitch 0.65 mm; Supplier 1: Digi-Key; Supplier Part Number 1: LTC4052EMS8E-4.2#PBF-ND; Supplier 2: Farnell; Supplier Part Number 2: 1273985; Supplier 3: Newark; Supplier Part Number 3: 58M0842; RoHS: TRUE; Type of Charger: Pulse; Mounting Technology: Surface Mount; ComponentLink1Description: Manufacturer URL; ComponentLink1URL: http://www.linear.com/; ComponentLink2Description: Datasheet; ComponentLink2URL: http://cds.linear.com/docs/en/datasheet/405242f.pdf; ComponentLink3Description: Package Specification; ComponentLink3URL: http://cds.linear.com/docs/en/datasheet/4070fc.pdf
footprint LT-MS8E-8-2060X1830TP_N (SOP, 8-Leads, Body 3.1x3.1mm, Pitch 0.65mm, Thermal Pad 2.162x1.932mm, IPC Medium Density)
footprint LT-MS8E-8-2060X1830TP_L (SOP, 8-Leads, Body 3.1x3.1mm, Pitch 0.65mm, Thermal Pad 2.162x1.932mm, IPC High Density)
footprint LT-MS8E-8-2060X1830TP_M (SOP, 8-Leads, Body 3.1x3.1mm, Pitch 0.65mm, Thermal Pad 2.162x1.932mm, IPC Low Density)
pins: 1 SENSE (in) "Overcurrent Sense Input. A sense resistor (RSENSE) should be connected from VIN to the SENSE pin to program the current limit level. When overcurrent limit is tripped, the pass transistor immediately turns off and turns back (See Datasheet)", 2 ~{ACPR} (hiz) "AC Wall Adapter Present Open-Drain Output. When the input voltage (wall adapter) is applied to the LTC4052, this pin is pulled to ground by an internal N-channel MOSFET capable of driving an LED.", 3 VIN (power) "Positive Input Supply Voltage (4.5V <= VIN <= 10V). Bypass this pin with a 1uF capacitor in series with a 4.7ohm resistor.", 4 GND (power) "Electrical Ground Connection and provides a thermal path from the IC to the PC board copper. The exposed backside of the package is also ground and must be soldered to the PC board for maximum power dissipation.", 5 TIMER (in) "Timer Set Pin. The timer period is programmed by a capacitor (CTIMER) to ground. The timer period is: tTIMER = (CTIMER x 3Hr)/(0.1uF). The minimum ON time, minimum OFF time and the overcurrent time-out period all scale with (See Datasheet)", 6 ~{CHRG} (hiz) "Charge Status Open-Drain Output. When a depleted battery is being charged, the C\H\R\G\ pin is pulled to ground by an internal N-channel MOSFET capable of driving an LED. Once the duty cycle at the GATE pin drops below 10%, (See Datasheet)", 7 GATE (out) "Gate Drive Output Pin for Internal and External Pass Transistors. An external N-MOSFET transistor can be connected in parallel with the internal transistor to reduce the on-resistance for higher charge current. In this case, (See Datasheet)", 8 BAT (in) "Battery Sense Input Pin. An internal resistor divider presets the final float voltage to 4.2V. If the BAT pin drops below 4.05V after the charge cycle has ended, the timer resets and a new charge cycle begins. This pin is (See Datasheet)", 9 EP (power) "EXPOSED PAD IS GROUND. (MUST BE SOLDERED TO PCB)."

## LTC4052EMS8E-4.2#TR
designator U?
Lithium-Ion Battery Pulse Charger with Overcurrent Protection, 4.5 to 10 V Vin, 8-pin SOP (MS8E-8), -40 to 85 degC, Tape and Reel; Manufacturer: Linear Technology; PartNumber: LTC4052EMS8E-4.2#TR; Battery Chemistry: Li-Ion, Li-Polymer; Charge Termination: On-board timer; Float Voltage: 4.2 V; Number of Cells: 1; Vin Max(V): 10; Vin Min(V): 4.5; PackageVersion: Rev. E; PackageReference: MS8E-8; PackageDescription: 8-Pin Plastic MSOP, Exposed Die Pad, Body 3 x 3 mm, Pitch 0.65 mm; Supplier 1: Digi-Key; Supplier Part Number 1: LTC4052EMS8E4.2TR-ND; Packing: Tape and Reel; RoHS: FALSE; Type of Charger: Pulse; Mounting Technology: Surface Mount; ComponentLink1Description: Manufacturer URL; ComponentLink1URL: http://www.linear.com/; ComponentLink2Description: Datasheet; ComponentLink2URL: http://cds.linear.com/docs/en/datasheet/405242f.pdf; ComponentLink3Description: Package Specification; ComponentLink3URL: http://cds.linear.com/docs/en/datasheet/4070fc.pdf
footprint LT-MS8E-8-2060X1830TP_N (SOP, 8-Leads, Body 3.1x3.1mm, Pitch 0.65mm, Thermal Pad 2.162x1.932mm, IPC Medium Density)
footprint LT-MS8E-8-2060X1830TP_L (SOP, 8-Leads, Body 3.1x3.1mm, Pitch 0.65mm, Thermal Pad 2.162x1.932mm, IPC High Density)
footprint LT-MS8E-8-2060X1830TP_M (SOP, 8-Leads, Body 3.1x3.1mm, Pitch 0.65mm, Thermal Pad 2.162x1.932mm, IPC Low Density)
pins: 1 SENSE (in) "Overcurrent Sense Input. A sense resistor (RSENSE) should be connected from VIN to the SENSE pin to program the current limit level. When overcurrent limit is tripped, the pass transistor immediately turns off and turns back (See Datasheet)", 2 ~{ACPR} (hiz) "AC Wall Adapter Present Open-Drain Output. When the input voltage (wall adapter) is applied to the LTC4052, this pin is pulled to ground by an internal N-channel MOSFET capable of driving an LED.", 3 VIN (power) "Positive Input Supply Voltage (4.5V <= VIN <= 10V). Bypass this pin with a 1uF capacitor in series with a 4.7ohm resistor.", 4 GND (power) "Electrical Ground Connection and provides a thermal path from the IC to the PC board copper. The exposed backside of the package is also ground and must be soldered to the PC board for maximum power dissipation.", 5 TIMER (in) "Timer Set Pin. The timer period is programmed by a capacitor (CTIMER) to ground. The timer period is: tTIMER = (CTIMER x 3Hr)/(0.1uF). The minimum ON time, minimum OFF time and the overcurrent time-out period all scale with (See Datasheet)", 6 ~{CHRG} (hiz) "Charge Status Open-Drain Output. When a depleted battery is being charged, the C\H\R\G\ pin is pulled to ground by an internal N-channel MOSFET capable of driving an LED. Once the duty cycle at the GATE pin drops below 10%, (See Datasheet)", 7 GATE (out) "Gate Drive Output Pin for Internal and External Pass Transistors. An external N-MOSFET transistor can be connected in parallel with the internal transistor to reduce the on-resistance for higher charge current. In this case, (See Datasheet)", 8 BAT (in) "Battery Sense Input Pin. An internal resistor divider presets the final float voltage to 4.2V. If the BAT pin drops below 4.05V after the charge cycle has ended, the timer resets and a new charge cycle begins. This pin is (See Datasheet)", 9 EP (power) "EXPOSED PAD IS GROUND. (MUST BE SOLDERED TO PCB)."

## LTC4052EMS8E-4.2#TRPBF
designator U?
Lithium-Ion Battery Pulse Charger with Overcurrent Protection, 4.5 to 10 V Vin, 8-pin SOP (MS8E-8), -40 to 85 degC, Pb-Free, Tape and Reel; Manufacturer: Linear Technology; PartNumber: LTC4052EMS8E-4.2#TRPBF; Battery Chemistry: Li-Ion, Li-Polymer; Charge Termination: On-board timer; Float Voltage: 4.2 V; Number of Cells: 1; Vin Max(V): 10; Vin Min(V): 4.5; PackageVersion: Rev. E; PackageReference: MS8E-8; PackageDescription: 8-Pin Plastic MSOP, Exposed Die Pad, Body 3 x 3 mm, Pitch 0.65 mm; Supplier 1: Digi-Key; Supplier Part Number 1: LTC4052EMS8E-4.2#TRPBF-ND; Packing: Tape and Reel; RoHS: TRUE; Type of Charger: Pulse; Mounting Technology: Surface Mount; ComponentLink1Description: Manufacturer URL; ComponentLink1URL: http://www.linear.com/; ComponentLink2Description: Datasheet; ComponentLink2URL: http://cds.linear.com/docs/en/datasheet/405242f.pdf; ComponentLink3Description: Package Specification; ComponentLink3URL: http://cds.linear.com/docs/en/datasheet/4070fc.pdf
footprint LT-MS8E-8-2060X1830TP_N (SOP, 8-Leads, Body 3.1x3.1mm, Pitch 0.65mm, Thermal Pad 2.162x1.932mm, IPC Medium Density)
footprint LT-MS8E-8-2060X1830TP_L (SOP, 8-Leads, Body 3.1x3.1mm, Pitch 0.65mm, Thermal Pad 2.162x1.932mm, IPC High Density)
footprint LT-MS8E-8-2060X1830TP_M (SOP, 8-Leads, Body 3.1x3.1mm, Pitch 0.65mm, Thermal Pad 2.162x1.932mm, IPC Low Density)
pins: 1 SENSE (in) "Overcurrent Sense Input. A sense resistor (RSENSE) should be connected from VIN to the SENSE pin to program the current limit level. When overcurrent limit is tripped, the pass transistor immediately turns off and turns back (See Datasheet)", 2 ~{ACPR} (hiz) "AC Wall Adapter Present Open-Drain Output. When the input voltage (wall adapter) is applied to the LTC4052, this pin is pulled to ground by an internal N-channel MOSFET capable of driving an LED.", 3 VIN (power) "Positive Input Supply Voltage (4.5V <= VIN <= 10V). Bypass this pin with a 1uF capacitor in series with a 4.7ohm resistor.", 4 GND (power) "Electrical Ground Connection and provides a thermal path from the IC to the PC board copper. The exposed backside of the package is also ground and must be soldered to the PC board for maximum power dissipation.", 5 TIMER (in) "Timer Set Pin. The timer period is programmed by a capacitor (CTIMER) to ground. The timer period is: tTIMER = (CTIMER x 3Hr)/(0.1uF). The minimum ON time, minimum OFF time and the overcurrent time-out period all scale with (See Datasheet)", 6 ~{CHRG} (hiz) "Charge Status Open-Drain Output. When a depleted battery is being charged, the C\H\R\G\ pin is pulled to ground by an internal N-channel MOSFET capable of driving an LED. Once the duty cycle at the GATE pin drops below 10%, (See Datasheet)", 7 GATE (out) "Gate Drive Output Pin for Internal and External Pass Transistors. An external N-MOSFET transistor can be connected in parallel with the internal transistor to reduce the on-resistance for higher charge current. In this case, (See Datasheet)", 8 BAT (in) "Battery Sense Input Pin. An internal resistor divider presets the final float voltage to 4.2V. If the BAT pin drops below 4.05V after the charge cycle has ended, the timer resets and a new charge cycle begins. This pin is (See Datasheet)", 9 EP (power) "EXPOSED PAD IS GROUND. (MUST BE SOLDERED TO PCB)."

## LTC4053EDD-4.2
designator U?
USB Compatible Lithium-Ion Battery Charger with Thermal Regulation, 4.25 to 6.5 V Vin, 10-pin SON (DD-10), -40 to 85 degC; Manufacturer: Linear Technology; PartNumber: LTC4053EDD-4.2; Battery Chemistry: Li-Ion, Li-Polymer; Charge Termination: On-board timer; Float Voltage: 4.2 V; Max Charge Current(A): 1.25; Number of Cells: 1; Type of Charger: Linear; Vin Max(V): 6.5; Vin Min(V): 4.25; DatasheetVersion: Rev. A; PackageReference: DD-10; PackageDescription: 10-Pin Plastic DFN, Body 3 x 3 mm, Pitch 0.5 mm; RoHS: FALSE; Mounting Technology: Surface Mount; Code_JEDEC: MO-229; ComponentLink1Description: Manufacturer URL; ComponentLink1URL: http://www.linear.com/; ComponentLink2Description: Datasheet; ComponentLink2URL: http://cds.linear.com/docs/en/datasheet/4053-4.2fs.pdf; ComponentLink3Description: Package Specification; ComponentLink3URL: http://cds.linear.com/docs/en/datasheet/1618fas.pdf
footprint LT-DD-10-05-08-1698_V (SON, 10-Leads, Body 3x3mm, Pitch 0.5mm, Thermal Pad 1.65x2.38mm)
pins: 1 ~{CHRG} (hiz) "Open-Drain Charge Status Output. When the battery is being charged, the C\H\R\G\ pin is pulled low by an internal N-channel MOSFET. When the charge current drops to 10% of the full-scale current, the N-channel MOSFET latches (See Datasheet)", 2 VCC (power), 3 ~{FAULT} (oc), 4 TIMER (in), 5 GND (power) "Ground. The exposed backside of the package is also ground and must be soldered to the PC board for maximum heat transfer.", 6 NTC (in), 7 PROG (in), 8 ~{SHDN} (in), 9 BAT (power) "Charge Current Output. A bypass capacitor of at least 1uF with a 1ohm series resistor is required to keep the loop stable when the battery is not present. A precision internal resistor divider sets the final float potential (See Datasheet)", 10 ~{ACPR} (hiz) "Open-Drain Power Supply Status Output. When VCC is greater than the undervoltage lockout threshold and at least 35mV above VBAT, the A\C\P\R\ pin will pull to ground. Otherwise, the pin is high impedance.", 11 EP (power) "Ground. The exposed backside of the package is also ground and must be soldered to the PC board for maximum heat transfer."

## LTC4053EDD-4.2#PBF
designator U?
USB Compatible Lithium-Ion Battery Charger with Thermal Regulation, 4.25 to 6.5 V Vin, 10-pin SON (DD-10), -40 to 85 degC, Pb-Free; Manufacturer: Linear Technology; PartNumber: LTC4053EDD-4.2#PBF; Battery Chemistry: Li-Ion, Li-Polymer; Charge Termination: On-board timer; Float Voltage: 4.2 V; Max Charge Current(A): 1.25; Number of Cells: 1; Type of Charger: Linear; Vin Max(V): 6.5; Vin Min(V): 4.25; DatasheetVersion: Rev. A; PackageReference: DD-10; PackageDescription: 10-Pin Plastic DFN, Body 3 x 3 mm, Pitch 0.5 mm; Supplier 1: Digi-Key; Supplier Part Number 1: LTC4053EDD-4.2#PBF-ND; Supplier 2: Farnell; Supplier Part Number 2: 1648031; Supplier 3: Newark; Supplier Part Number 3: 58M0846; RoHS: TRUE; Mounting Technology: Surface Mount; Code_JEDEC: MO-229; ComponentLink1Description: Manufacturer URL; ComponentLink1URL: http://www.linear.com/; ComponentLink2Description: Datasheet; ComponentLink2URL: http://cds.linear.com/docs/en/datasheet/4053-4.2fs.pdf; ComponentLink3Description: Package Specification; ComponentLink3URL: http://cds.linear.com/docs/en/datasheet/1618fas.pdf
footprint LT-DD-10-05-08-1698_V (SON, 10-Leads, Body 3x3mm, Pitch 0.5mm, Thermal Pad 1.65x2.38mm)
pins: 1 ~{CHRG} (hiz) "Open-Drain Charge Status Output. When the battery is being charged, the C\H\R\G\ pin is pulled low by an internal N-channel MOSFET. When the charge current drops to 10% of the full-scale current, the N-channel MOSFET latches (See Datasheet)", 2 VCC (power), 3 ~{FAULT} (oc), 4 TIMER (in), 5 GND (power) "Ground. The exposed backside of the package is also ground and must be soldered to the PC board for maximum heat transfer.", 6 NTC (in), 7 PROG (in), 8 ~{SHDN} (in), 9 BAT (power) "Charge Current Output. A bypass capacitor of at least 1uF with a 1ohm series resistor is required to keep the loop stable when the battery is not present. A precision internal resistor divider sets the final float potential (See Datasheet)", 10 ~{ACPR} (hiz) "Open-Drain Power Supply Status Output. When VCC is greater than the undervoltage lockout threshold and at least 35mV above VBAT, the A\C\P\R\ pin will pull to ground. Otherwise, the pin is high impedance.", 11 EP (power) "Ground. The exposed backside of the package is also ground and must be soldered to the PC board for maximum heat transfer."

## LTC4053EDD-4.2#TR
designator U?
USB Compatible Lithium-Ion Battery Charger with Thermal Regulation, 4.25 to 6.5 V Vin, 10-pin SON (DD-10), -40 to 85 degC, Tape and Reel; Manufacturer: Linear Technology; PartNumber: LTC4053EDD-4.2#TR; Battery Chemistry: Li-Ion, Li-Polymer; Charge Termination: On-board timer; Float Voltage: 4.2 V; Max Charge Current(A): 1.25; Number of Cells: 1; Type of Charger: Linear; Vin Max(V): 6.5; Vin Min(V): 4.25; DatasheetVersion: Rev. A; PackageReference: DD-10; PackageDescription: 10-Pin Plastic DFN, Body 3 x 3 mm, Pitch 0.5 mm; Packing: Tape and Reel; RoHS: FALSE; Mounting Technology: Surface Mount; Code_JEDEC: MO-229; ComponentLink1Description: Manufacturer URL; ComponentLink1URL: http://www.linear.com/; ComponentLink2Description: Datasheet; ComponentLink2URL: http://cds.linear.com/docs/en/datasheet/4053-4.2fs.pdf; ComponentLink3Description: Package Specification; ComponentLink3URL: http://cds.linear.com/docs/en/datasheet/1618fas.pdf
footprint LT-DD-10-05-08-1698_V (SON, 10-Leads, Body 3x3mm, Pitch 0.5mm, Thermal Pad 1.65x2.38mm)
pins: 1 ~{CHRG} (hiz) "Open-Drain Charge Status Output. When the battery is being charged, the C\H\R\G\ pin is pulled low by an internal N-channel MOSFET. When the charge current drops to 10% of the full-scale current, the N-channel MOSFET latches (See Datasheet)", 2 VCC (power), 3 ~{FAULT} (oc), 4 TIMER (in), 5 GND (power) "Ground. The exposed backside of the package is also ground and must be soldered to the PC board for maximum heat transfer.", 6 NTC (in), 7 PROG (in), 8 ~{SHDN} (in), 9 BAT (power) "Charge Current Output. A bypass capacitor of at least 1uF with a 1ohm series resistor is required to keep the loop stable when the battery is not present. A precision internal resistor divider sets the final float potential (See Datasheet)", 10 ~{ACPR} (hiz) "Open-Drain Power Supply Status Output. When VCC is greater than the undervoltage lockout threshold and at least 35mV above VBAT, the A\C\P\R\ pin will pull to ground. Otherwise, the pin is high impedance.", 11 EP (power) "Ground. The exposed backside of the package is also ground and must be soldered to the PC board for maximum heat transfer."

## LTC4053EDD-4.2#TRPBF
designator U?
USB Compatible Lithium-Ion Battery Charger with Thermal Regulation, 4.25 to 6.5 V Vin, 10-pin SON (DD-10), -40 to 85 degC, Pb-Free, Tape and Reel; Manufacturer: Linear Technology; PartNumber: LTC4053EDD-4.2#TRPBF; Battery Chemistry: Li-Ion, Li-Polymer; Charge Termination: On-board timer; Float Voltage: 4.2 V; Max Charge Current(A): 1.25; Number of Cells: 1; Type of Charger: Linear; Vin Max(V): 6.5; Vin Min(V): 4.25; DatasheetVersion: Rev. A; PackageReference: DD-10; PackageDescription: 10-Pin Plastic DFN, Body 3 x 3 mm, Pitch 0.5 mm; Supplier 1: Digi-Key; Supplier Part Number 1: LTC4053EDD-4.2#TRPBF-ND; Supplier 2: Newark; Supplier Part Number 2: 58M0848; Packing: Tape and Reel; RoHS: TRUE; Mounting Technology: Surface Mount; Code_JEDEC: MO-229; ComponentLink1Description: Manufacturer URL; ComponentLink1URL: http://www.linear.com/; ComponentLink2Description: Datasheet; ComponentLink2URL: http://cds.linear.com/docs/en/datasheet/4053-4.2fs.pdf; ComponentLink3Description: Package Specification; ComponentLink3URL: http://cds.linear.com/docs/en/datasheet/1618fas.pdf
footprint LT-DD-10-05-08-1698_V (SON, 10-Leads, Body 3x3mm, Pitch 0.5mm, Thermal Pad 1.65x2.38mm)
pins: 1 ~{CHRG} (hiz) "Open-Drain Charge Status Output. When the battery is being charged, the C\H\R\G\ pin is pulled low by an internal N-channel MOSFET. When the charge current drops to 10% of the full-scale current, the N-channel MOSFET latches (See Datasheet)", 2 VCC (power), 3 ~{FAULT} (oc), 4 TIMER (in), 5 GND (power) "Ground. The exposed backside of the package is also ground and must be soldered to the PC board for maximum heat transfer.", 6 NTC (in), 7 PROG (in), 8 ~{SHDN} (in), 9 BAT (power) "Charge Current Output. A bypass capacitor of at least 1uF with a 1ohm series resistor is required to keep the loop stable when the battery is not present. A precision internal resistor divider sets the final float potential (See Datasheet)", 10 ~{ACPR} (hiz) "Open-Drain Power Supply Status Output. When VCC is greater than the undervoltage lockout threshold and at least 35mV above VBAT, the A\C\P\R\ pin will pull to ground. Otherwise, the pin is high impedance.", 11 EP (power) "Ground. The exposed backside of the package is also ground and must be soldered to the PC board for maximum heat transfer."

## LTC4053EMSE-4.2
designator U?
USB Compatible Lithium-Ion Battery Charger with Thermal Regulation, 4.25 to 6.5 V Vin, 10-pin SOP (MSE-10-EDP), -40 to 85 degC; Manufacturer: Linear Technology; PartNumber: LTC4053EMSE-4.2; Battery Chemistry: Li-Ion, Li-Polymer; Charge Termination: On-board timer; Float Voltage: 4.2 V; Max Charge Current(A): 1.25; Number of Cells: 1; Type of Charger: Linear; Vin Max(V): 6.5; Vin Min(V): 4.25; DatasheetVersion: Rev. A; PackageVersion: Rev. C, 08/2009; PackageReference: MSE-10; PackageDescription: 10-Pin Plastic MSOP, Exposed Die Pad, Body 3 x 3 mm, Pitch 0.5 mm; Supplier 1: Digi-Key; Supplier Part Number 1: LTC4053EMSE-4.2-ND; RoHS: FALSE; Mounting Technology: Surface Mount; ComponentLink1Description: Manufacturer URL; ComponentLink1URL: http://www.linear.com/; ComponentLink2Description: Datasheet; ComponentLink2URL: http://cds.linear.com/docs/en/datasheet/4053-4.2fs.pdf; ComponentLink3Description: Package Specification; ComponentLink3URL: http://cds.linear.com/docs/en/datasheet/3481fc.pdf
footprint LT-MSE-10-EDP-2060x1830TP_N (SOP, 10-Leads, Body 3.1x3.1mm, Pitch 0.5mm, Thermal Pad 2.17x1.94mm, IPC Medium Density)
footprint LT-MSE-10-EDP-2060x1830TP_L (SOP, 10-Leads, Body 3.1x3.1mm, Pitch 0.5mm, Thermal Pad 2.17x1.94mm, IPC High Density)
footprint LT-MSE-10-EDP-2060x1830TP_M (SOP, 10-Leads, Body 3.1x3.1mm, Pitch 0.5mm, Thermal Pad 2.17x1.94mm, IPC Low Density)
pins: 1 ~{CHRG} (hiz) "Open-Drain Charge Status Output. When the battery is being charged, the C\H\R\G\ pin is pulled low by an internal N-channel MOSFET. When the charge current drops to 10% of the full-scale current, the N-channel MOSFET latches (See Datasheet)", 2 VCC (power), 3 ~{FAULT} (oc), 4 TIMER (in), 5 GND (power) "Ground. The exposed backside of the package is also ground and must be soldered to the PC board for maximum heat transfer.", 6 NTC (in), 7 PROG (in), 8 ~{SHDN} (in), 9 BAT (power) "Charge Current Output. A bypass capacitor of at least 1uF with a 1ohm series resistor is required to keep the loop stable when the battery is not present. A precision internal resistor divider sets the final float potential (See Datasheet)", 10 ~{ACPR} (hiz) "Open-Drain Power Supply Status Output. When VCC is greater than the undervoltage lockout threshold and at least 35mV above VBAT, the A\C\P\R\ pin will pull to ground. Otherwise, the pin is high impedance.", 11 EP (power) "Ground. The exposed backside of the package is also ground and must be soldered to the PC board for maximum heat transfer."